# EAGLE library part 505567-0571 (library RescueRunner)
Vertical
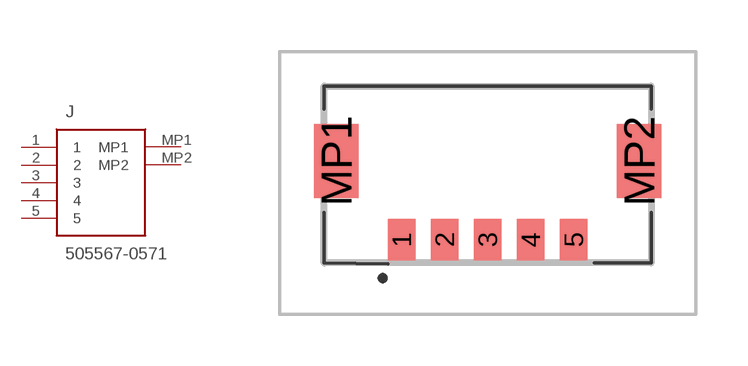
[diagram p10: symbol with the pads of 5055680571; footprint 5055680571]

Designator prefix J

## 505567-0571 (ALLIED_NUMBER: 71085525; DESCRIPTION: Headers & Wire Housings MicroLockPlus 1.25MM VERT HDR SR 5CKT BLK; HEIGHT: 4.05mm; MANUFACTURER_NAME: Molex; MANUFACTURER_PART_NUMBER: 505568-0571; RS_PART_NUMBER: 1615926P; RS_PRICE-STOCK: http://uk.rs-online.com/web/p/products/1615926P)  [5055680571]
1  1
2  2
3  3
4  4
5  5
MP1  MP1
MP2  MP2

## Footprint 5055680571 (pad centres in mm)
505568-0571-1
smd 0.8 x 1.2: 1 -2.5,-1.882; 2 -1.25,-1.882; 3 0,-1.882; 4 1.25,-1.882; 5 2.5,-1.882
smd 1.3 x 2.15: MP1 -4.4,0.412; MP2 4.4,0.412